# Altium schematic symbol library PowerConnector.SchLib: 5 symbols
Pins are listed as number, name and electrical type; pins without a type are passive.

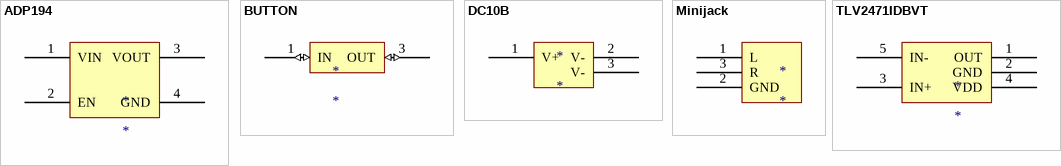
[diagram p0: symbols ADP194 to TLV2471IDBVT]

## ADP194
designator *
pins: 1 VIN, 2 EN, 3 VOUT, 4 GND

## BUTTON
designator *
footprint BUTTON
pins: 1 IN (io), 3 OUT (io)

## DC10B
designator *
footprint DC-10B
pins: 1 V+, 2 V-, 3 V-

## Minijack
designator *
footprint MINIJACKS
pins: 1 L, 2 GND, 3 R

## TLV2471IDBVT
designator *
footprint TLV2471IDBVT (SOT23, 5-Leads, Body 2,90x2,80mm, Pitch 0,95mm, IPC Medium Density)
pins: 1 OUT, 2 GND, 3 IN+, 4 VDD, 5 IN-